# Altium schematic symbol library CustomComponentLibraries.SchLib: 11 symbols
Pins are listed as number, name and electrical type; pins without a type are passive.

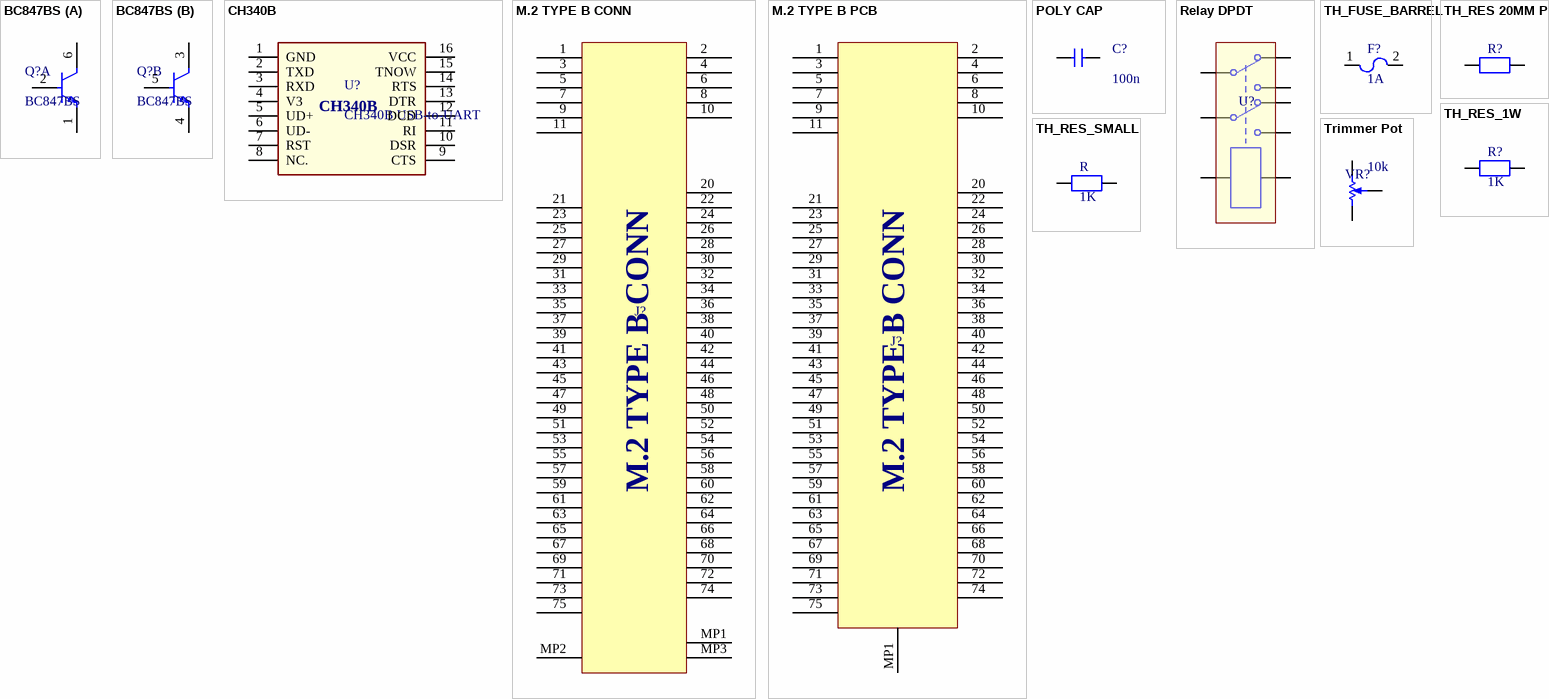
[diagram p0: symbols BC847BS to Trimmer Pot]

## BC847BS
designator Q?
NEXPERIA BC847BS
footprint BC847BS
part A pins: 1 E1, 2 B1, 6 C1
part B pins: 3 C2, 4 E2, 5 B2

## CH340B
designator U?, comment CH340B USB-to-UART
footprint SOP-16
pins: 1 GND, 2 TXD, 3 RXD, 4 V3, 5 UD+, 6 UD-, 7 RST, 8 NC., 9 CTS, 10 DSR, 11 RI, 12 DCD, 13 DTR, 14 RTS, 15 TNOW, 16 VCC

## M.2 TYPE B CONN
designator J?
AS0BC21-S30BB-7H
footprint M.2 TYPE B CONN (2230) (AS0BC21-S30BB-7H)
footprint M.2 TYPE B CONN (2242) (AS0BC21-S30BB-7H)
pins: 1, 2, 3, 4, 5, 6, 7, 8, 9, 10, 11, 20, 21, 22, 23, 24, 25, 26, 27, 28, 29, 30, 31, 32, 33, 34, 35, 36, 37, 38, 39, 40, 41, 42, 43, 44, 45, 46, 47, 48, 49, 50, 51, 52, 53, 54, 55, 56, 57, 58, 59, 60, 61, 62, 63, 64, 65, 66, 67, 68, 69, 70, 71, 72, 73, 74, 75, MP1, MP2, MP3

## M.2 TYPE B PCB
designator J?
M.2 TYPE B PCB (2230) M.2 TYPE B PCB (2230)
footprint M.2 TYPE B PCB (2242)
footprint M.2 TYPE B PCB (2230)
pins: 1, 2, 3, 4, 5, 6, 7, 8, 9, 10, 11, 20, 21, 22, 23, 24, 25, 26, 27, 28, 29, 30, 31, 32, 33, 34, 35, 36, 37, 38, 39, 40, 41, 42, 43, 44, 45, 46, 47, 48, 49, 50, 51, 52, 53, 54, 55, 56, 57, 58, 59, 60, 61, 62, 63, 64, 65, 66, 67, 68, 69, 70, 71, 72, 73, 74, 75, MP1
text: M.2 TYPE B CONN

## POLY CAP
designator C?, comment 100n
Generic TH Polyester Capacitor 5mm
footprint POLY CAP 5MM (Generic TH Polyester Capacitor 5MM)
pins: 1, 2

## Relay DPDT
designator U?
DPDT 2 form C (CO) contacts
footprint RT424012
pins: 1, 2, 3, 4, 5, 6, 7, 8

## TH_FUSE_BARREL
designator F?, comment 1A
Generic TH Barrel Fuse
footprint TH_FUSE_BARREL
pins: 1, 2

## TH_RES 20MM P
designator R?
Generic TH Resistor 1W (20mm)
footprint TH_RES 20MM P
pins: 1, 2

## TH_RES_1W
designator R?, comment 1K
Generic TH Resistor 1W (14mm)
footprint TH_RES_1W
pins: 1, 2

## TH_RES_SMALL
designator R, comment 1K
Generic TH Resistor 1W (7.6mm)
footprint TH_RES_SMALL
pins: 1, 2

## Trimmer Pot
designator VR?  value 10k
footprint 3296W Wiper Pot (3296W Series)
pins: 1 +, 2 W, 3 -